# Altium schematic symbol library IRFS7430PBF.Schlib: 1 symbol
Pins are listed as number, name and electrical type; pins without a type are passive.

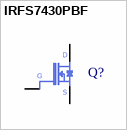
[diagram p0: symbol IRFS7430PBF]

## IRFS7430PBF
designator Q?  (value not drawn)
pins: 1 G, 3 S, 4 D